# EAGLE library part MCP2120 (library microchip)
Infrared Encoder/Decoder
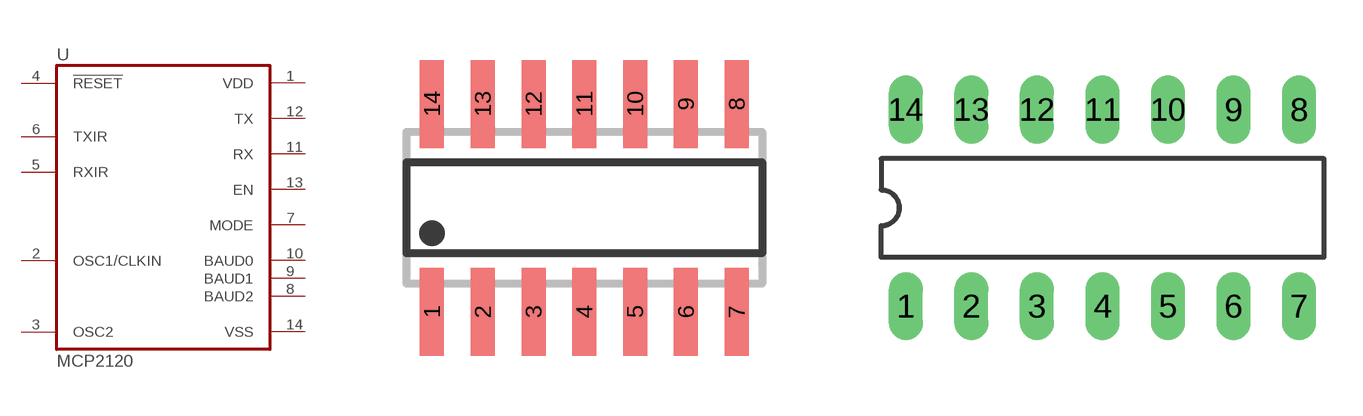
[diagram p147: symbol with the pads of SO-14; footprints SO-14, DIL14]

Designator prefix U

## MCP2120SL  [SO-14]
1  VDD  pwr
2  OSC1/CLKIN  in
3  OSC2
4  !RESET!  in
5  RXIR  in
6  TXIR  out
7  MODE  in
8  BAUD2  in
9  BAUD1  in
10  BAUD0  in
11  RX  out
12  TX  in
13  EN  in
14  VSS  pwr

## MCP2120P  [DIL14]
Pads as for SO-14

## Footprint SO-14 (pad centres in mm)
Small Outline Narrow Plastic Gull Wing 150-mil body, package type SL
smd 0.6 x 2.2: 1 -3.81,-2.6; 2 -2.54,-2.6; 3 -1.27,-2.6; 4 0,-2.6; 5 1.27,-2.6; 6 2.54,-2.6; 7 3.81,-2.6; 8 3.81,2.6; 9 2.54,2.6; 10 1.27,2.6; 11 0,2.6; 12 -1.27,2.6; 13 -2.54,2.6; 14 -3.81,2.6

## Footprint DIL14 (pad centres in mm)
Dual In Line Package
drill 0.813 long: 1 -7.62,-3.81; 2 -5.08,-3.81; 3 -2.54,-3.81; 4 0,-3.81; 5 2.54,-3.81; 6 5.08,-3.81; 7 7.62,-3.81; 8 7.62,3.81; 9 5.08,3.81; 10 2.54,3.81; 11 0,3.81; 12 -2.54,3.81; 13 -5.08,3.81; 14 -7.62,3.81